# Altium footprint library aiskylab-14Connectors-05Modular-ETH-Con.PcbLib: 3 footprints
Each footprint in its own frame and in the unit in brackets; x right, y up, seen from the top. Pads: shape width x height; smd on the part's side, far side on the other; paste and mask are expansions set on the pad; w line width, h text height; cw(c..) or ccw(c..) is an arc to the next point about the centre after c.
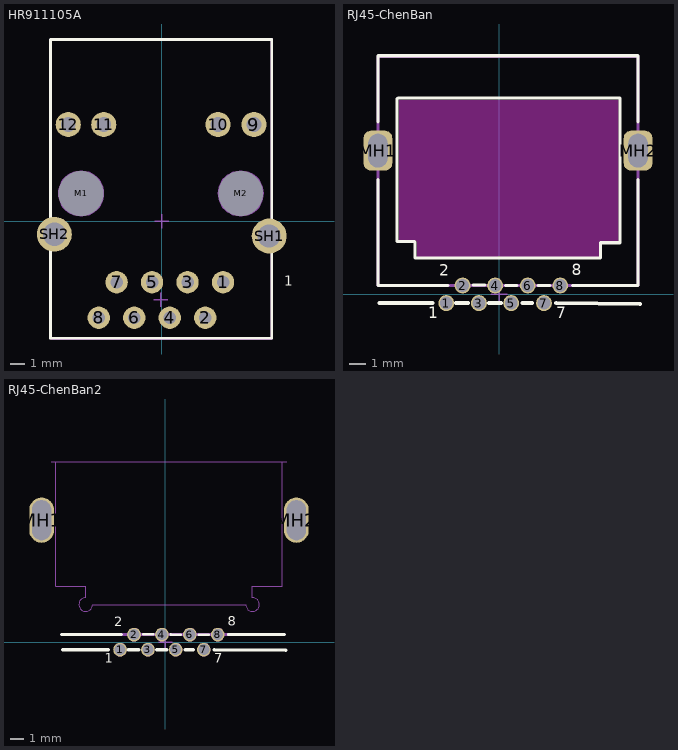
[diagram p0: the footprints below, top view; thin cyan lines are the x and y axes]

## HR911105A [mm]
pads (16):
  round 1.6 hole 0.9: 1(4.382,-4.369) 2(3.112,-6.909) 3(1.842,-4.369) 4(0.572,-6.909) 5(-0.698,-4.369) 6(-1.968,-6.909) 7(-3.234,-4.369) 8(-4.508,-6.909)
  round 1.8 hole 1.05: 9(6.591,6.909) 10(4.026,6.909) 11(-4.153,6.909) 12(-6.693,6.909)
  round 1 hole 3.2 unplated mask+1.1: M1(-5.778,1.981) M2(5.652,1.981)
  round 2.5 hole 1.65: SH1(7.683,-1.067) SH2(-7.683,-0.94)
Top Overlay:
  lines w0.2: -7.963,-8.382 7.861,-8.382 7.861,13.005 -7.963,13.005 -7.963,-8.382
  text "1" at 8.763,-4.877 h1.2
Top Designator:
  text ".Designator" at -7.612,1.803 h1.52
Top Assembly:
  lines w0.2: -7.963,-8.382 7.861,-8.382 7.861,13.005 -7.963,13.005 -7.963,-8.382
  text "1" at 8.763,-4.877 h1.2
Top Component Center:
  circle w0.1: c5.652,1.981 r1.6
  circle w0.1: c-5.778,1.981 r1.6
  circle w0.1: c4.382,-4.369 r0.415
  circle w0.1: c3.112,-6.909 r0.415
  circle w0.1: c-3.238,-4.369 r0.415
  circle w0.1: c-4.508,-6.909 r0.415
  lines w0.1: -6.278,1.981 -5.778,1.981 ; -5.778,1.481 -5.778,1.981 ; -5.778,2.481 -5.778,1.981 ; -5.278,1.981 -5.778,1.981 ; -5.008,-6.909 -4.508,-6.909 ; -4.508,-7.409 -4.508,-6.909 ; -4.508,-6.409 -4.508,-6.909 ; -4.008,-6.909 -4.508,-6.909 ; -3.738,-4.369 -3.238,-4.369 ; -3.238,-4.869 -3.238,-4.369 ; -3.238,-3.869 -3.238,-4.369 ; -2.738,-4.369 -3.238,-4.369 ; -2.468,-6.909 -1.968,-6.909 ; -1.968,-7.409 -1.968,-6.909 ; -1.968,-6.409 -1.968,-6.909 ; -1.468,-6.909 -1.968,-6.909 ; -1.198,-4.369 -0.698,-4.369 ; -0.698,-4.869 -0.698,-4.369 ; -0.698,-3.869 -0.698,-4.369 ; -0.563,-5.639 -0.063,-5.639 ; -0.5,0 0,0 ; -0.198,-4.369 -0.698,-4.369 ; -0.063,-6.139 -0.063,-5.639 ; -0.063,-5.139 -0.063,-5.639 ; 0,-0.5 0,0 ; 0,0.5 0,0 ; 0.072,-6.909 0.572,-6.909 ; 0.437,-5.639 -0.063,-5.639 ; 0.5,0 0,0 ; 0.572,-7.409 0.572,-6.909 ; 0.572,-6.409 0.572,-6.909 ; 1.072,-6.909 0.572,-6.909 ; 1.342,-4.369 1.842,-4.369 ; 1.842,-4.869 1.842,-4.369 ; 1.842,-3.869 1.842,-4.369 ; 2.342,-4.369 1.842,-4.369 ; 2.612,-6.909 3.112,-6.909 ; 3.112,-7.409 3.112,-6.909 ; 3.112,-6.409 3.112,-6.909 ; 3.612,-6.909 3.112,-6.909 ; 3.882,-4.369 4.382,-4.369 ; 4.382,-4.869 4.382,-4.369 ; 4.382,-3.869 4.382,-4.369 ; 4.882,-4.369 4.382,-4.369 ; 5.152,1.981 5.652,1.981 ; 5.652,1.481 5.652,1.981 ; 5.652,2.481 5.652,1.981 ; 6.152,1.981 5.652,1.981
Top 3D Body:
  lines w0.1: -7.963,-8.433 7.861,-8.433 7.861,13.03 -7.963,13.03 -7.963,-8.433
  text "1" at 8.763,-4.877 h1.2
3D body "User Library-HR911105A.step": height 13.5, standoff -3, extent -8.003,-8.433 7.876,12.967

## RJ45-ChenBan [mm] "松下平板电脑沉板网口连接器"
pads (10):
  round 1 hole 0.8: 1(-3.315,-0.55) 2(-2.295,0.55) 3(-1.275,-0.55) 4(-0.255,0.55) 5(0.75,-0.55) 6(1.785,0.55) 7(2.805,-0.55) 8(3.825,0.55)
  rrect50% 1.8x2.5 hole 2.1 slot 1.2 at 0 deg: MH1(-7.6,9) MH2(8.7,9)
Top Overlay:
  lines w0.2: -7.6,7.2 -7.6,0.559 -3.211,0.559 ; -7.6,10.8 -7.6,14.95 8.7,14.95 8.7,10.8 ; -6.4,12.25 -6.4,3.3 -5.3,3.3 -5.275,3.275 -5.275,2.275 6.35,2.275 6.35,3.225 7.575,3.225 7.575,12.3 -6.35,12.3 ; -1.625,0.575 -0.9,0.575 ; 0.388,0.559 1.1,0.55 ; 2.45,0.55 3.175,0.55 ; 4.6,0.559 8.7,0.559 8.7,7.2
  lines w0.254: -7.5,-0.559 -4.178,-0.559 ; -2.7,-0.55 -1.963,-0.55 ; -0.637,-0.55 0.1,-0.55 ; 1.45,-0.55 2.045,-0.55 ; 3.575,-0.55 8.81,-0.6
  text "8" at 4.55,0.938 h1.2
  text "2" at -3.751,0.9 h1.2
  text "1" at -4.435,-1.755 h1.2
  text "7" at 3.564,-1.741 h1.2
Keep-Out Layer:
  board cut-out: -6.273,3.402 -5.3,3.402 -5.285,3.402 -5.257,3.395 -5.23,3.382 -5.208,3.363 -5.198,3.352 -5.187,3.342 -5.168,3.32 -5.155,3.293 -5.148,3.265 -5.148,3.25 -5.148,2.275 6.248,2.275 6.248,3.2 6.248,3.215 6.255,3.243 6.268,3.27 6.287,3.292 6.298,3.302 6.308,3.313 6.33,3.332 6.357,3.345 6.385,3.352 6.4,3.352 7.473,3.352 7.473,12.173 -6.273,12.173
Top Designator:
  text ".Designator" at -7.618,8.394 h1.52
Top Assembly:
  lines w0.2: -7.6,0.559 -7.6,14.9 8.7,14.9 8.7,0.559 -7.6,0.559
  text "1" at -4.435,-1.755 h1.2
Top Component Center:
  lines w0.1: -0.5,0 0,0 ; 0,-0.5 0,0 ; 0,0.5 0,0 ; 0.5,0 0,0
Top 3D Body:
  lines w0.1: -7.62,0.6 8.7,0.6 ; -7.6,0.559 -7.6,14.944 8.7,14.944 8.7,0.559 8.1,0.559 -7.6,0.559
  text "1" at -4.435,-1.755 h1.2
3D body "松下网口.stp": height 5.4, standoff -4.6, extent -7.527,-0.8 8.773,15.03
3D body: height -3, standoff -4, extent -3.224,2.811 -2.508,15.03
3D body: height -3, standoff -4, extent -1.921,2.796 -1.204,15.015
3D body: height -3, standoff -4, extent 0.593,2.842 1.309,15.061
3D body: height -3, standoff -4, extent 3.137,2.796 3.854,15.015
3D body: height -3, standoff -4, extent 4.383,2.799 5.1,15.018
3D body: height -3, standoff -4, extent -4.528,2.811 -3.811,15.03
3D body: height -3, standoff -4, extent 1.849,2.811 2.566,15.03
3D body: height -3, standoff -4, extent -0.618,2.842 0.099,15.061

## RJ45-ChenBan2 [mm] "松下平板电脑沉板网口连接器"
pads (10):
  round 1 hole 0.8: 1(-3.315,-0.55) 2(-2.295,0.55) 3(-1.275,-0.55) 4(-0.255,0.55) 5(0.75,-0.55) 6(1.785,0.55) 7(2.805,-0.55) 8(3.825,0.55)
  oval 1.8x3.3 hole 2.921 slot 1.397 at 0 deg: MH1(-9.05,8.915) MH2(9.576,8.915)
Top Overlay:
  lines w0.2: -7.6,0.559 -3.211,0.559 ; -1.625,0.575 -0.9,0.575 ; 0.388,0.559 1.1,0.55 ; 2.45,0.55 3.175,0.55 ; 4.6,0.559 8.7,0.559
  lines w0.254: -7.5,-0.559 -4.178,-0.559 ; -2.7,-0.55 -1.963,-0.55 ; -0.637,-0.55 0.1,-0.55 ; 1.45,-0.55 2.045,-0.55 ; 3.575,-0.55 8.81,-0.6
  text "7" at 3.564,-1.741 h1.2
  text "1" at -4.435,-1.755 h1.2
  text "2" at -3.751,0.9 h1.2
  text "8" at 4.55,0.938 h1.2
Board:
  lines w0.013: -8.01,13.15 -8.01,4.09 -5.825,4.09 -5.825,3.25 ccw(c-5.825,2.75) -5.325,2.75 5.865,2.75 ccw(c6.365,2.75) 6.365,3.25 6.365,4.09 8.55,4.09 8.55,13.15 ; -9.75,8.2 ccw(c-9.05,8.2) -8.35,8.2 -8.35,9.7 ccw(c-9.05,9.7) -9.75,9.7 -9.75,8.2 ; 8.89,8.2 ccw(c9.59,8.2) 10.29,8.2 10.29,9.7 ccw(c9.59,9.7) 8.89,9.7 8.89,8.2
Top Assembly:
  circle w0.013: c2.82,-0.55 r0.45
  circle w0.013: c1.8,0.55 r0.45
  circle w0.013: c3.84,0.55 r0.45
  circle w0.013: c-3.3,-0.55 r0.45
  circle w0.013: c-0.24,0.55 r0.45
  circle w0.013: c0.78,-0.55 r0.45
  circle w0.013: c-2.28,0.55 r0.45
  circle w0.013: c-1.26,-0.55 r0.45
  lines w0.013: -8.331,13.183 8.865,13.183 ; -8.01,13.15 -8.01,4.09 -5.825,4.09 -5.825,3.25 ccw(c-5.825,2.75) -5.325,2.75 5.865,2.75 ccw(c6.365,2.75) 6.365,3.25 6.365,4.09 8.55,4.09 8.55,13.15 ; -9.75,8.2 ccw(c-9.05,8.2) -8.35,8.2 -8.35,9.7 ccw(c-9.05,9.7) -9.75,9.7 -9.75,8.2 ; 8.89,8.2 ccw(c9.59,8.2) 10.29,8.2 10.29,9.7 ccw(c9.59,9.7) 8.89,9.7 8.89,8.2
  lines w0.2: -7.6,0.559 8.7,0.559
  text "1" at -4.435,-1.755 h1.2
Top Component Center:
  lines w0.1: -0.5,0 0,0 ; 0,-0.5 0,0 ; 0,0.5 0,0 ; 0.5,0 0,0
Top 3D Body:
  lines w0.1: -7.62,0.6 8.7,0.6 ; -7.6,0.559 8.1,0.559 8.7,0.559
  text "1" at -4.435,-1.755 h1.2